# EAGLE library part 6180XX25123_61801525123 (library Wurth_Connectors_WR-DSUB)
WR-DSUB Female PCB Connector Kind Properties Gender:Female Type:Straight Insulator Material:PBT Insulator Flammability Rating:UL94 V-0 Color:White Contact Material:Copper Alloy Contact Plating:Gold Contact Type:Stamped Shielding Material:Steel Shielding Plating:Tin General Information Operating Temperature:-55 up to +105 °C Electrical Properties Working Voltage:125 V (AC) Withstanding Voltage:1000 V (AC) Contact Resistance:300 mΩ <https://www.we-online.com/catalog/media/o60801v209%20Family_I-O_DSUB_PCB_Female_wo-screw_6180xx25123_pf2.jpg> Details see: https://www.we-online.com/catalog/en/DSUB_FEMALE_PCB_CONNECTOR_6180XX25123/ Updated by Yingchun, Shan 2020-01-10 2020 (C) Würth Elektronik
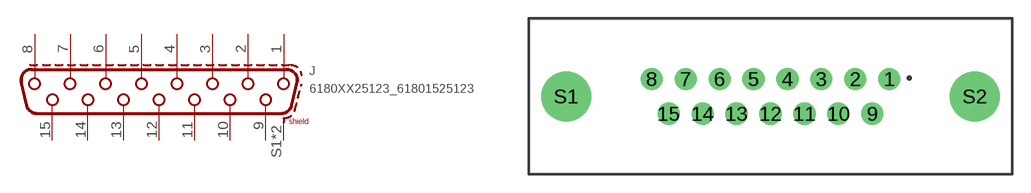
[diagram p31: symbol with the pads of 61801525123; footprint 61801525123]

Designator prefix J

## 6180XX25123_61801525123 (DATASHEET-URL: https://www.we-online.com/redexpert/spec/61801525123?ae; GENDER: Female; PART-NUMBER: 61801525123; PINS: 15; TYPE: Straight; VALUE: 61801525123; WE-NUMBER: 61801525123; WORKING-VOLTAGE: 125 V(AC))  [61801525123]
1  1
2  2
3  3
4  4
5  5
6  6
7  7
8  8
9  9
10  10
11  11
12  12
13  13
14  14
15  15
S1  SHIELD
S2  SHIELD

## Footprint 61801525123 (pad centres in mm)
WR-DSUB Female PCB Connector, 15 Pins
drill 1.2: 1 9.695,1.42; 2 6.925,1.42; 3 4.155,1.42; 4 1.385,1.42; 5 -1.385,1.42; 6 -4.155,1.42; 7 -6.925,1.42; 8 -9.695,1.42; 9 8.31,-1.42; 10 5.54,-1.42; 11 2.77,-1.42; 12 0,-1.42; 13 -2.77,-1.42; 14 -5.54,-1.42; 15 -8.31,-1.42
drill 3.05: S1 -16.66,0; S2 16.66,0